# EAGLE library part MEGA103* (library cls)
MICROCONTROLLER Low-voltage (L) 128 Kbytes FLASH 4 Kbytes SRAM 2 Kbytes EEPROM UART RTC 8-channel 10 bit ADC
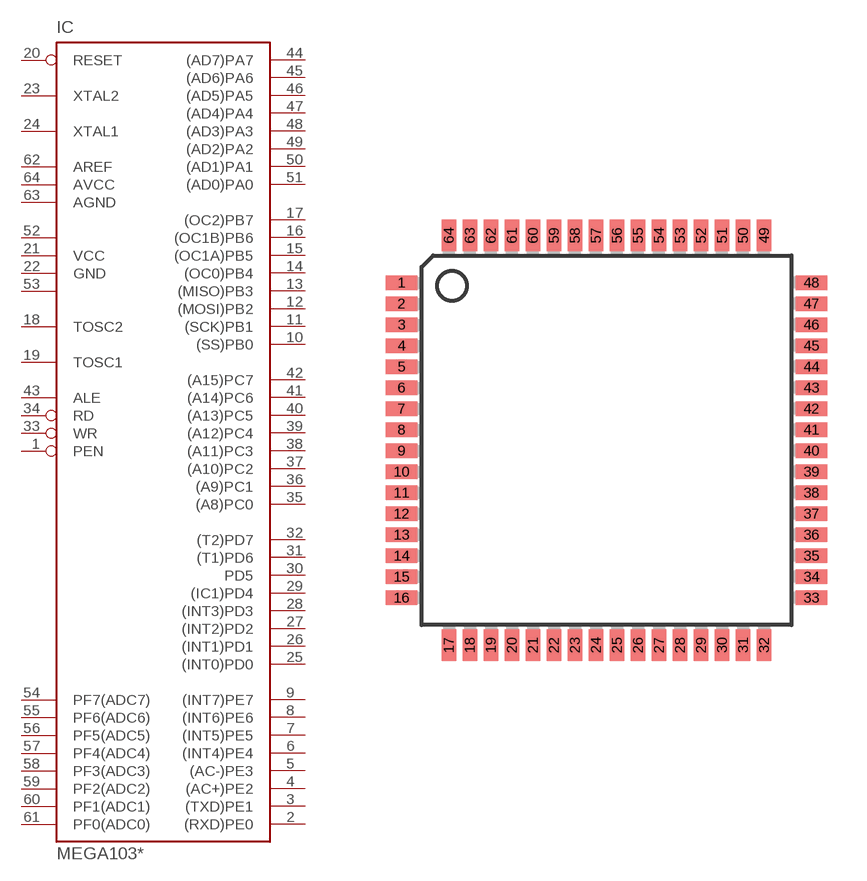
[diagram p20: symbol with the pads of TQFP64; footprint TQFP64]

Designator prefix IC

## MEGA103, MEGA103L  [TQFP64]
1  PEN  in
2  (RXD)PE0
3  (TXD)PE1
4  (AC+)PE2
5  (AC-)PE3
6  (INT4)PE4
7  (INT5)PE5
8  (INT6)PE6
9  (INT7)PE7
10  (SS)PB0
11  (SCK)PB1
12  (MOSI)PB2
13  (MISO)PB3
14  (OC0)PB4
15  (OC1A)PB5
16  (OC1B)PB6
17  (OC2)PB7
18  TOSC2
19  TOSC1
20  RESET  in
21  VCC  pwr
22  GND  pwr
23  XTAL2
24  XTAL1
25  (INT0)PD0
26  (INT1)PD1
27  (INT2)PD2
28  (INT3)PD3
29  (IC1)PD4
30  PD5
31  (T1)PD6
32  (T2)PD7
33  WR
34  RD
35  (A8)PC0  out
36  (A9)PC1  out
37  (A10)PC2  out
38  (A11)PC3  out
39  (A12)PC4  out
40  (A13)PC5  out
41  (A14)PC6  out
42  (A15)PC7  out
43  ALE
44  (AD7)PA7
45  (AD6)PA6
46  (AD5)PA5
47  (AD4)PA4
48  (AD3)PA3
49  (AD2)PA2
50  (AD1)PA1
51  (AD0)PA0
52  VCC1  pwr
53  GND1  pwr
54  PF7(ADC7)  in
55  PF6(ADC6)  in
56  PF5(ADC5)  in
57  PF4(ADC4)  in
58  PF3(ADC3)  in
59  PF2(ADC2)  in
60  PF1(ADC1)  in
61  PF0(ADC0)  in
62  AREF
63  AGND
64  AVCC

## Footprint TQFP64 (pad centres in mm)
Thin Plasic Quad Flat Package
smd 1.194 x 0.559: 1 -8.2,6.4; 2 -8.2,5.6; 3 -8.2,4.8; 4 -8.2,4; 5 -8.2,3.2; 6 -8.2,2.4; 7 -8.2,1.6; 8 -8.2,0.8; 9 -8.2,0; 10 -8.2,-0.8; 11 -8.2,-1.6; 12 -8.2,-2.4; 13 -8.2,-3.2; 14 -8.2,-4; 15 -8.2,-4.8; 16 -8.2,-5.6; 33 7.4,-5.6; 34 7.4,-4.8; 35 7.4,-4; 36 7.4,-3.2; 37 7.4,-2.4; 38 7.4,-1.6; 39 7.4,-0.8; 40 7.4,0; 41 7.4,0.8; 42 7.4,1.6; 43 7.4,2.4; 44 7.4,3.2; 45 7.4,4; 46 7.4,4.8; 47 7.4,5.6; 48 7.4,6.4
smd 0.559 x 1.194: 17 -6.4,-7.4; 18 -5.6,-7.4; 19 -4.8,-7.4; 20 -4,-7.4; 21 -3.2,-7.4; 22 -2.4,-7.4; 23 -1.6,-7.4; 24 -0.8,-7.4; 25 0,-7.4; 26 0.8,-7.4; 27 1.6,-7.4; 28 2.4,-7.4; 29 3.2,-7.4; 30 4,-7.4; 31 4.8,-7.4; 32 5.6,-7.4; 49 5.6,8.2; 50 4.8,8.2; 51 4,8.2; 52 3.2,8.2; 53 2.4,8.2; 54 1.6,8.2; 55 0.8,8.2; 56 0,8.2; 57 -0.8,8.2; 58 -1.6,8.2; 59 -2.4,8.2; 60 -3.2,8.2; 61 -4,8.2; 62 -4.8,8.2; 63 -5.6,8.2; 64 -6.4,8.2